# Altium schematic symbol library Template part.SchLib: 2 symbols
Pins are listed as number, name and electrical type; pins without a type are passive.

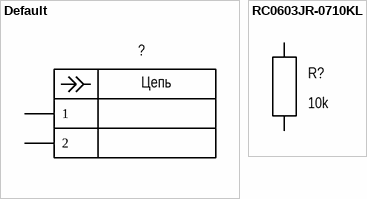
[diagram p0: symbols Default to RC0603JR-0710KL]

## Default
designator ?
Default; Component: Connector; Operating temperature: -°C +°C; Mounting type: Surface mount; Dimension: .0mm x .0mm; Height: .0mm; System: Connector
pins: 1, 2
text: Цепь

## RC0603JR-0710KL
designator R?, comment 10k
RESC 10k 0603(1608); Manufacturer: Yageo; Part name: RC0603JR-0710KL; Group: Discrete; Temperature coefficient: ±100ppm/°C; Tolerance: ±5%; Power: 0.1W; Component: Resistor Ceramic; Type: Thin film; Package: 0603 (1608); Value: 10k; Dimension: 1.60mm x 0.80mm; Height: 0.55mm; Operating temperature: -55°C +155°C; Mounting type: Surface mount
footprint 1608M (Chip Resistor, Body 1.6x0.8mm, IPC High Density)
pins: 1, 2